# Altium footprint library MOLEX_105450-0101.PcbLib: 1 footprints
Each footprint in its own frame and in the unit in brackets; x right, y up, seen from the top. Pads: shape width x height; smd on the part's side, far side on the other; paste and mask are expansions set on the pad; w line width, h text height; cw(c..) or ccw(c..) is an arc to the next point about the centre after c.
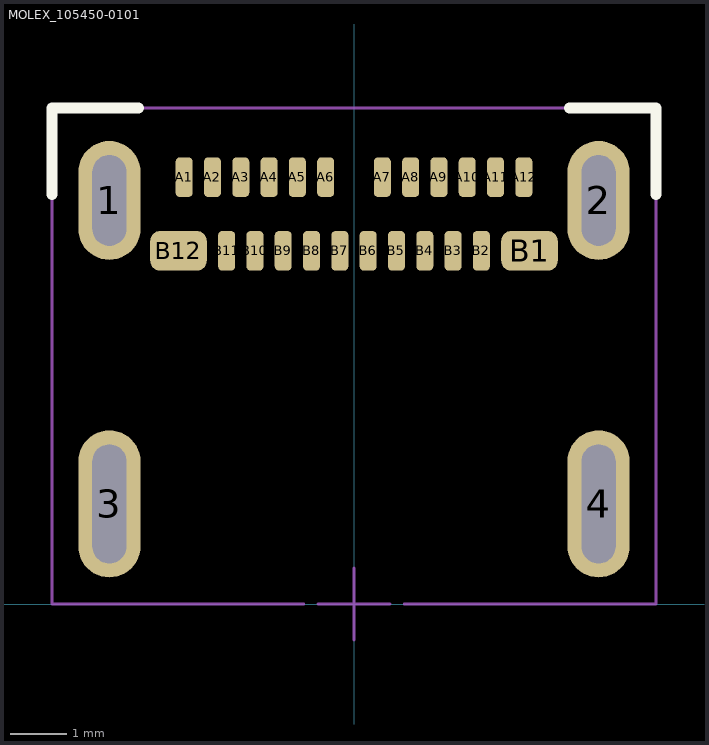
[diagram p0: the footprint, top view; thin cyan lines are the x and y axes]

## MOLEX_105450-0101 [mm]
pads (28):
  oval 1.1x2.1 hole 0.6 slot 1.6 at 90 deg: 1(-4.32,7.13) 2(4.32,7.13)
  oval 1.1x2.6 hole 0.6 slot 2.1 at 90 deg: 3(-4.32,1.77) 4(4.32,1.77)
  rrect50% 0.3x0.7 smd: A1(-3,7.54) A2(-2.5,7.54) A3(-2,7.54) A4(-1.5,7.54) A5(-1,7.54) A6(-0.5,7.54) A7(0.5,7.54) A8(1,7.54) A9(1.5,7.54) A10(2,7.54) A11(2.5,7.54) A12(3,7.54) B2(2.25,6.24) B3(1.75,6.24) B4(1.25,6.24) B5(0.75,6.24) B6(0.25,6.24) B7(-0.25,6.24) B8(-0.75,6.24) B9(-1.25,6.24) B10(-1.75,6.24) B11(-2.25,6.24)
  rrect50% 1x0.7 smd: B1(3.1,6.24) B12(-3.1,6.24)
Top Overlay:
  lines w0.2: -5.334,7.239 -5.334,8.763 -3.81,8.763 ; 3.81,8.763 5.334,8.763 5.334,7.239
Mechanical 15:
  lines w0.05: -0.889,0 -5.334,0 -5.334,8.763 5.334,8.763 5.334,0 0.889,0 ; -0.635,0 0.635,0 ; 0,-0.635 0,0.635
  text "EDGE" at -3.302,0.254 h0.79
  text "EDGE" at 3.302,1.016 h0.79
3D body: height 3.23, standoff -0.73, extent -4.47,-0.08 4.47,7.82